# Altium footprint library B12B-ZR.PcbLib: 1 footprints
Each footprint in its own frame and in the unit in brackets; x right, y up, seen from the top. Pads: shape width x height; smd on the part's side, far side on the other; paste and mask are expansions set on the pad; w line width, h text height; cw(c..) or ccw(c..) is an arc to the next point about the centre after c.
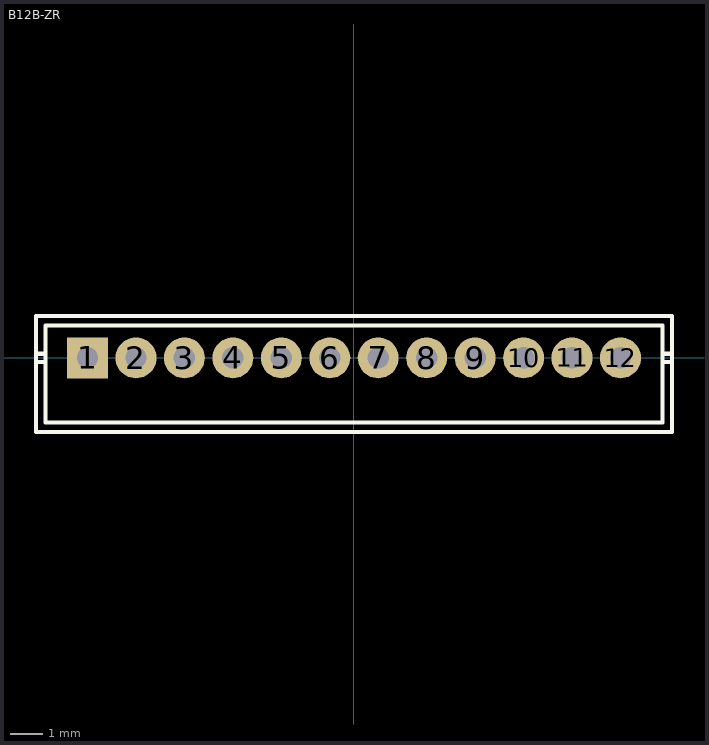
[diagram p0: the footprint, top view; thin cyan lines are the x and y axes]

## B12B-ZR [mil] "ZH Connector 1.5mm pitch, top entry"
height 177.17
pads (12):
  rect 50x50 hole 26: 1(-324.8,0)
  round 50 hole 26: 2(-265.75,0) 3(-206.69,0) 4(-147.64,0) 5(-88.58,0) 6(-29.53,0) 7(29.53,0) 8(88.58,0) 9(147.64,0) 10(206.69,0) 11(265.75,0) 12(324.8,0)
Top Overlay:
  lines w5: -387.8,-5 -375.98,-5 ; -387.8,5 -375.98,5 ; -375.98,-78.74 -375.98,39.37 375.98,39.37 375.98,-78.74 -375.3,-78.74 ; 375.98,-5 387.8,-5 ; 375.98,5 387.8,5 ; -387.8,-90.55 387.8,-90.55 387.8,51.18 -387.8,51.18 -387.8,-90.55
3D body: height 177.17, standoff 0, extent -387.78,5.02 387.78,51.16
3D body: height 177.17, standoff 0, extent -387.78,-90.53 387.78,-5
3D body: height 55.12, standoff 0, extent -376,-78.76 376,39.39